# EAGLE library part IM6102 (library dec-con)
MEDIC MMU/DMA/RTC for IM6100.
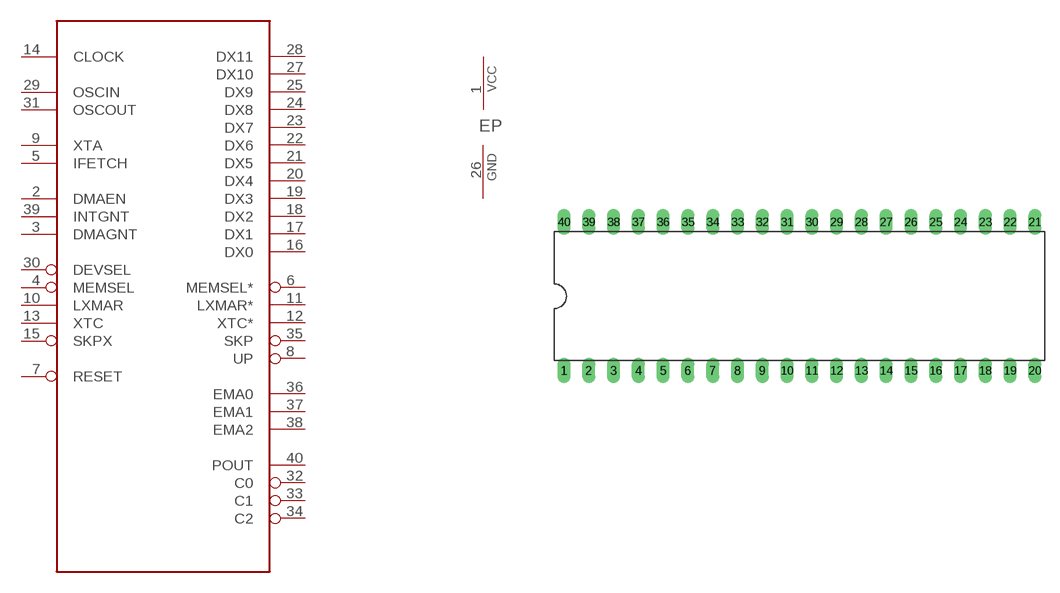
[diagram p39: symbol with the pads of DIL40; footprint DIL40]

Designator prefix E; gates G$1=IM6102 P=PWRN

## IM6102  [DIL40]
1  P:VCC  pwr
2  G$1:DMAEN  in
3  G$1:DMAGNT  in
4  G$1:MEMSEL  in
5  G$1:IFETCH  in
6  G$1:MEMSEL*  out
7  G$1:RESET  in
8  G$1:UP  out
9  G$1:XTA  in
10  G$1:LXMAR  in
11  G$1:LXMAR*  out
12  G$1:XTC*  out
13  G$1:XTC  in
14  G$1:CLOCK  in
15  G$1:SKPX  in
16  G$1:DX0
17  G$1:DX1
18  G$1:DX2
19  G$1:DX3
20  G$1:DX4
21  G$1:DX5
22  G$1:DX6
23  G$1:DX7
24  G$1:DX8
25  G$1:DX9
26  P:GND  pwr
27  G$1:DX10
28  G$1:DX11
29  G$1:OSCIN  in
30  G$1:DEVSEL  in
31  G$1:OSCOUT  out
32  G$1:C0  oc
33  G$1:C1  oc
34  G$1:C2  oc
35  G$1:SKP  out
36  G$1:EMA0  out
37  G$1:EMA1  out
38  G$1:EMA2  out
39  G$1:INTGNT  in
40  G$1:POUT  out

## Footprint DIL40 (pad centres in mm)
Dual In Line
drill 0.813 long: 1 -24.13,-7.62; 2 -21.59,-7.62; 3 -19.05,-7.62; 4 -16.51,-7.62; 5 -13.97,-7.62; 6 -11.43,-7.62; 7 -8.89,-7.62; 8 -6.35,-7.62; 9 -3.81,-7.62; 10 -1.27,-7.62; 11 1.27,-7.62; 12 3.81,-7.62; 13 6.35,-7.62; 14 8.89,-7.62; 15 11.43,-7.62; 16 13.97,-7.62; 17 16.51,-7.62; 18 19.05,-7.62; 19 21.59,-7.62; 20 24.13,-7.62; 21 24.13,7.62; 22 21.59,7.62; 23 19.05,7.62; 24 16.51,7.62; 25 13.97,7.62; 26 11.43,7.62; 27 8.89,7.62; 28 6.35,7.62; 29 3.81,7.62; 30 1.27,7.62; 31 -1.27,7.62; 32 -3.81,7.62; 33 -6.35,7.62; 34 -8.89,7.62; 35 -11.43,7.62; 36 -13.97,7.62; 37 -16.51,7.62; 38 -19.05,7.62; 39 -21.59,7.62; 40 -24.13,7.62